# Altium schematic symbol library BC847C.Schlib: 1 symbol
Pins are listed as number, name and electrical type; pins without a type are passive.

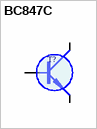
[diagram p0: symbol BC847C]

## BC847C
designator T?
SOT23     45V 0.1A 100MHz 4.5p (10V) (BC857C)
pins: 1 B, 2 E (oe), 3 C (oc)
1 alternate drawing of the same symbol